# EAGLE library part CXA1645 (library F030NG)
TV out driver / SONY CXA1645M
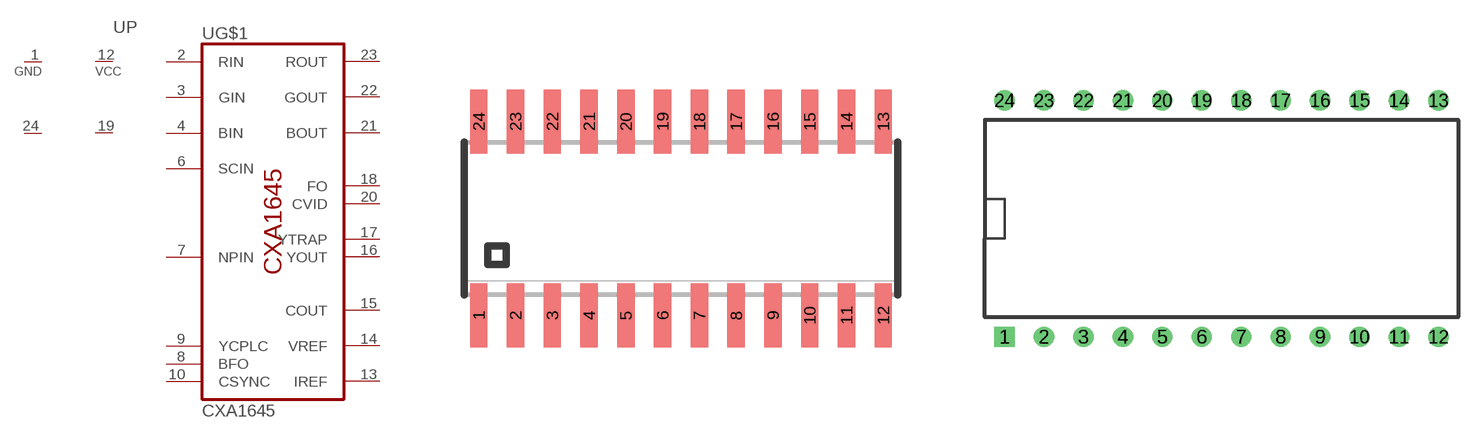
[diagram p66: symbol with the pads of SO24; footprints SO24, DIL24W]

Designator prefix U; gates P=2VCC_2GND G$1=CXA1645

## CXA1645M  [SO24]
1  P:GND  pwr
2  G$1:RIN  in
3  G$1:GIN  in
4  G$1:BIN  in
6  G$1:SCIN  in
7  G$1:NPIN  in
8  G$1:BFO  out
9  G$1:YCPLC  pas
10  G$1:CSYNC  in
12  P:VCC  pwr
13  G$1:IREF  pas
14  G$1:VREF  pas
15  G$1:COUT  out
16  G$1:YOUT  out
17  G$1:YTRAP  pas
18  G$1:FO  pas
19  P:VCC  pwr
20  G$1:CVID  out
21  G$1:BOUT  out
22  G$1:GOUT  out
23  G$1:ROUT  out
24  P:GND  pwr

## CXA1645P  [DIL24W]
Pads as for SO24

## Footprint SO24 (pad centres in mm)
SMALL OUTLINE INTEGRATED CIRCUIT 5,3 mm body
smd 0.6 x 2.2: 1 -6.985,-3.35; 2 -5.715,-3.35; 3 -4.445,-3.35; 4 -3.175,-3.35; 5 -1.905,-3.35; 6 -0.635,-3.35; 7 0.635,-3.35; 8 1.905,-3.35; 9 3.175,-3.35; 10 4.445,-3.35; 11 5.715,-3.35; 12 6.985,-3.35; 13 6.985,3.35; 14 5.715,3.35; 15 4.445,3.35; 16 3.175,3.35; 17 1.905,3.35; 18 0.635,3.35; 19 -0.635,3.35; 20 -1.905,3.35; 21 -3.175,3.35; 22 -4.445,3.35; 23 -5.715,3.35; 24 -6.985,3.35

## Footprint DIL24W (pad centres in mm)
Dual In Line Package
drill 0.8 square: 1 -13.97,-7.62
drill 0.8: 2 -11.43,-7.62; 3 -8.89,-7.62; 4 -6.35,-7.62; 5 -3.81,-7.62; 6 -1.27,-7.62; 7 1.27,-7.62; 8 3.81,-7.62; 9 6.35,-7.62; 10 8.89,-7.62; 11 11.43,-7.62; 12 13.97,-7.62; 13 13.97,7.62; 14 11.43,7.62; 15 8.89,7.62; 16 6.35,7.62; 17 3.81,7.62; 18 1.27,7.62; 19 -1.27,7.62; 20 -3.81,7.62; 21 -6.35,7.62; 22 -8.89,7.62; 23 -11.43,7.62; 24 -13.97,7.62